# Altium footprint library Electrode_Array_Hex.PcbLib: 1 footprints
Each footprint in its own frame and in the unit in brackets; x right, y up, seen from the top. Pads: shape width x height; smd on the part's side, far side on the other; paste and mask are expansions set on the pad; w line width, h text height; cw(c..) or ccw(c..) is an arc to the next point about the centre after c.
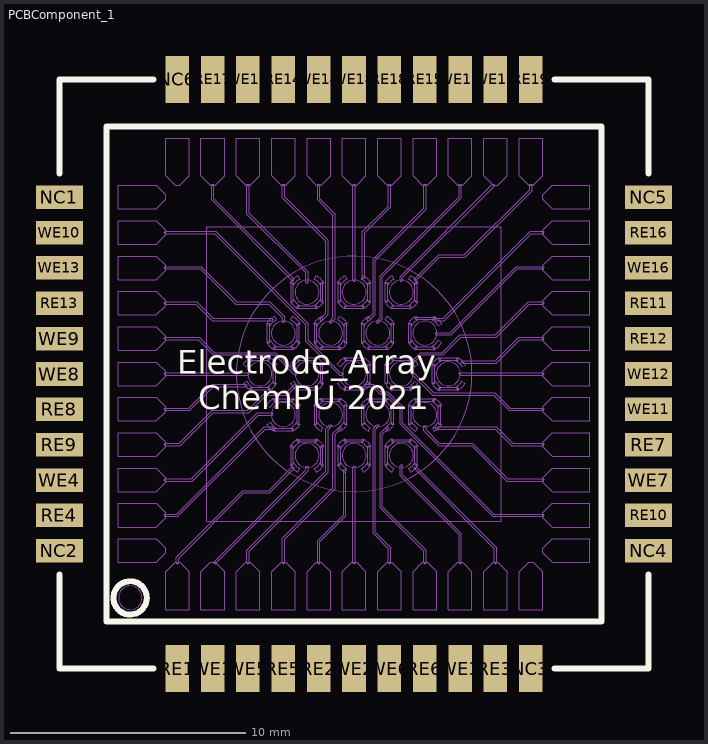
[diagram p0: the footprint, top view; thin cyan lines are the x and y axes]

## PCBComponent_1 [mm]
pads (44):
  rect 2x1 smd: NC1(-1143,-1158) NC2(-1143,-1173) NC4(-1118,-1173) NC5(-1118,-1158) RE4(-1143,-1171.5) RE7(-1118,-1168.5) RE8(-1143,-1167) RE9(-1143,-1168.5) RE10(-1118,-1171.5) RE11(-1118,-1162.5) RE12(-1118,-1164) RE13(-1143,-1162.5) RE16(-1118,-1159.5) WE4(-1143,-1170) WE7(-1118,-1170) WE8(-1143,-1165.5) WE9(-1143,-1164) WE10(-1143,-1159.5) WE11(-1118,-1167) WE12(-1118,-1165.5) WE13(-1143,-1161) WE16(-1118,-1161)
  rect 1x2 smd: NC3(-1123,-1178) NC6(-1138,-1153) RE1(-1138,-1178) RE2(-1132,-1178) RE3(-1124.5,-1178) RE5(-1133.5,-1178) RE6(-1127.5,-1178) RE14(-1133.5,-1153) RE15(-1127.5,-1153) RE17(-1136.5,-1153) RE18(-1129,-1153) RE19(-1123,-1153) WE1(-1136.5,-1178) WE2(-1130.5,-1178) WE3(-1126,-1178) WE5(-1135,-1178) WE6(-1129,-1178) WE14(-1132,-1153) WE15(-1126,-1153) WE17(-1135,-1153) WE18(-1130.5,-1153) WE19(-1124.5,-1153)
Top Overlay:
  circle w0.254: c-1140,-1175 r0.707
  lines w0.254: -1143,-1174 -1143,-1178 -1139,-1178 ; -1143,-1157 -1143,-1153 -1139,-1153 ; -1122,-1178 -1118,-1178 -1118,-1174 ; -1122,-1153 -1118,-1153 -1118,-1157 ; -1141,-1176 -1120,-1176 -1120,-1155 -1141,-1155 -1141,-1176
  text "Electrode_Array /   ChemPU 2021" at -1138,-1167 h1
Mechanical 5:
  drawing of 5189 lines, arcs and shapes, not listed
3D body "Electrode_Array_ChemPU_DARPA_2021_Scaled_mm_Hex.step": height 2, standoff -0.5, extent -1141,-1176 -1120,-1155